# Altium schematic symbol library MCP6541.Schlib: 1 symbol
Pins are listed as number, name and electrical type; pins without a type are passive.

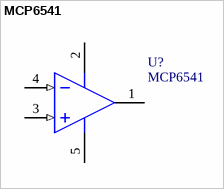
[diagram p0: symbol MCP6541]

## MCP6541
designator U?
Micropower Single CMOS Voltage Comparator
pins: 1 OUT (oc), 2 V+ (power), 3 IN+ (in), 4 IN- (in), 5 V- (power)